# EAGLE library part LMV324IDR (library Common-Parts-Library-Eagle)
Quad Low-Voltage Rail-to-Rail Output Operational Amplifier 14-SOIC -40 to 125
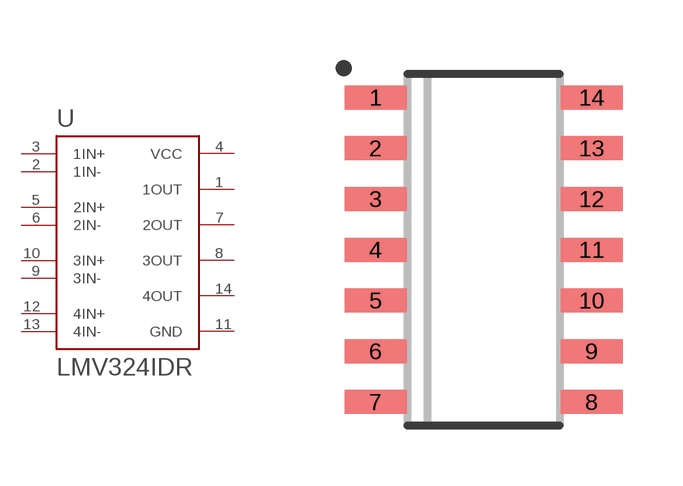
[diagram p68: symbol with the pads of SOIC127P600X175-14N; footprint SOIC127P600X175-14N]

Designator prefix U

## LMV324IDR (MANUFACTURER: Texas Instruments)  [SOIC127P600X175-14N]
1  1OUT  out
2  1IN-  in
3  1IN+  in
4  VCC  pwr
5  2IN+  in
6  2IN-  in
7  2OUT  out
8  3OUT  out
9  3IN-  in
10  3IN+  in
11  GND  pwr
12  4IN+  in
13  4IN-  in
14  4OUT  out

## Footprint SOIC127P600X175-14N (pad centres in mm)
smd 1.55 x 0.6: 1 -2.7,3.81; 2 -2.7,2.54; 3 -2.7,1.27; 4 -2.7,0; 5 -2.7,-1.27; 6 -2.7,-2.54; 7 -2.7,-3.81; 8 2.7,-3.81; 9 2.7,-2.54; 10 2.7,-1.27; 11 2.7,0; 12 2.7,1.27; 13 2.7,2.54; 14 2.7,3.81